# Altium footprint library BORNERA11_5mm_TORNILLO.PcbLib: 1 footprints
Each footprint in its own frame and in the unit in brackets; x right, y up, seen from the top. Pads: shape width x height; smd on the part's side, far side on the other; paste and mask are expansions set on the pad; w line width, h text height; cw(c..) or ccw(c..) is an arc to the next point about the centre after c.
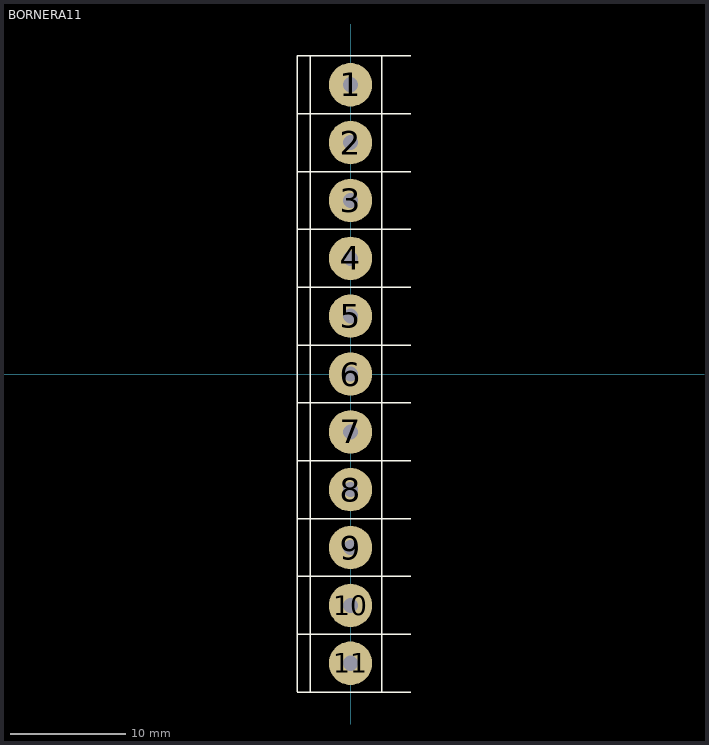
[diagram p0: the footprint, top view; thin cyan lines are the x and y axes]

## BORNERA11 [mm] "Bornera con Tornillos 5mm separación"
pads (11):
  round 3.75 hole 1.3: 1(0,25) 2(0,20) 3(0,15) 4(0,10) 5(0,5) 6(0,0) 7(0,-5) 8(0,-10) 9(0,-15) 10(0,-20) 11(0,-25)
Top Overlay:
  lines w0.127: -4.6,-27.5 5.2,-27.5 ; -4.6,-27.476 -4.6,27.5 5.2,27.5 ; -4.6,-17.5 5.2,-17.5 ; -4.6,-12.5 5.2,-12.5 ; -4.6,-7.5 5.2,-7.5 ; -4.6,-2.5 5.2,-2.5 ; -4.6,2.5 5.2,2.5 ; -4.6,7.5 5.2,7.5 ; -4.6,12.5 5.2,12.5 ; -4.6,17.5 5.2,17.5 ; -4.6,22.5 5.2,22.5 ; -4.597,-22.5 5.2,-22.5 ; -3.5,-27.476 -3.5,27.5 ; 2.7,-27.476 2.7,27.5
3D body "BORNERA_2.step": height 10, standoff -2.28, extent -3.763,-27.415 3.937,-16.915
3D body "BORNERA_2.step": height 10, standoff -2.28, extent -3.763,-22.393 3.937,-11.893
3D body "BORNERA_2.step": height 10, standoff -2.28, extent -3.763,-12.392 3.937,-1.893
3D body "BORNERA_2.step": height 10, standoff -2.28, extent -3.763,-2.392 3.937,8.107
3D body "BORNERA_2.step": height 10, standoff -2.28, extent -3.763,17.608 3.937,28.108
3D body "BORNERA_2.step": height 10, standoff -2.28, extent -3.763,7.608 3.937,18.107